# EAGLE library part TERM_BLOCK_PLUG_8POS_STR_2.5MM (library Camera_Board_Parts_09_30_2020)
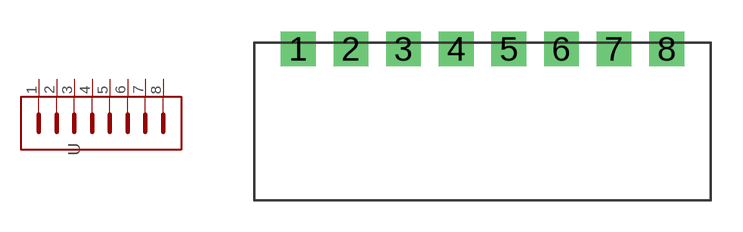
[diagram p0: symbol with the pads of TERM_BLOCK_PLUG_8POS_STR_2.5MM; footprint TERM_BLOCK_PLUG_8POS_STR_2.5MM]

Designator prefix -

## TERM_BLOCK_PLUG_8POS_STR_2.5MM  [TERM_BLOCK_PLUG_8POS_STR_2.5MM]
1  1  pas
2  2  pas
3  3  pas
4  4  pas
5  5  pas
6  6  pas
7  7  pas
8  8  pas

## Footprint TERM_BLOCK_PLUG_8POS_STR_2.5MM (pad centres in mm)
drill 1.1 square: 1 2.1,7.2; 2 4.6,7.2; 3 7.1,7.2; 4 9.6,7.2; 5 12.1,7.2; 6 14.6,7.2; 7 17.1,7.2; 8 19.6,7.2